# Altium footprint library VGA_F.PcbLib: 1 footprints
Each footprint in its own frame and in the unit in brackets; x right, y up, seen from the top. Pads: shape width x height; smd on the part's side, far side on the other; paste and mask are expansions set on the pad; w line width, h text height; cw(c..) or ccw(c..) is an arc to the next point about the centre after c.
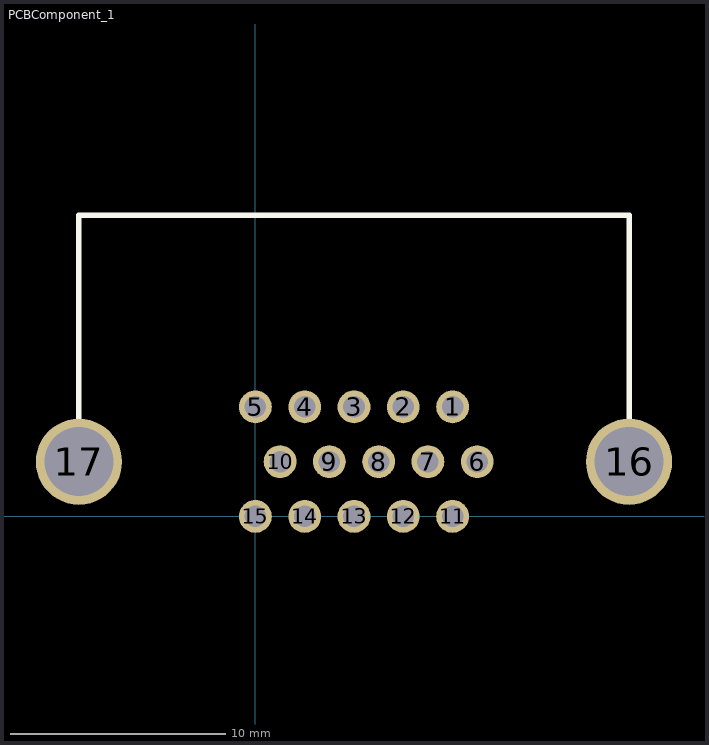
[diagram p0: the footprint, top view; thin cyan lines are the x and y axes]

## PCBComponent_1 [mil]
pads (17):
  round 60 hole 39.37: 1(360,200) 2(270,200) 3(180,200) 4(90,200) 5(0,200) 6(405,100) 7(315,100) 8(225,100) 9(135,100) 10(45,100) 11(360,0) 12(270,0) 13(180,0) 14(90,0) 15(0,0)
  round 157.48 hole 125.98: 16(682.17,100) 17(-322.17,100)
Top Overlay:
  lines w10: -322.17,100 -322.17,550 682.17,550 682.17,100